# EAGLE library part NJM319 (library Comparator)
NJM319 高速コンパレータ datasheet <http://akizukidenshi.com/catalog/g/gI-10083/>
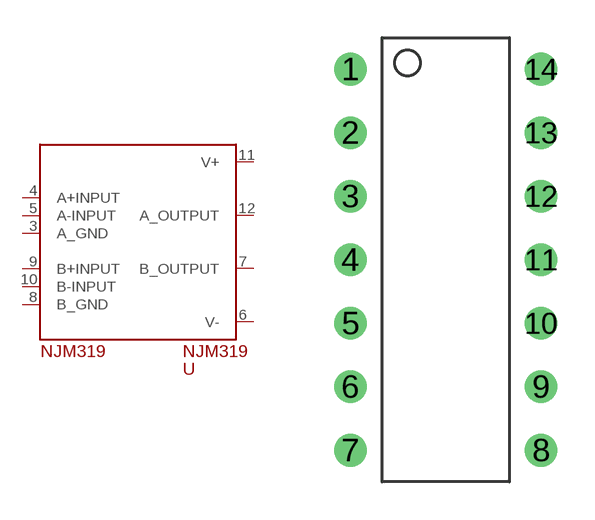
[diagram p0: symbol with the pads of DIP14; footprint DIP14]

Designator prefix U

## NJM319U  [DIP14]
3  A_GND
4  A+INPUT
5  A-INPUT
6  V-
7  B_OUTPUT
8  B_GND
9  B+INPUT
10  B-INPUT
11  V+
12  A_OUTPUT

## Footprint DIP14 (pad centres in mm)
DIPパッケージ 14ピン
drill 0.8: 1 -3.81,7.62; 2 -3.81,5.08; 3 -3.81,2.54; 4 -3.81,0; 5 -3.81,-2.54; 6 -3.81,-5.08; 7 -3.81,-7.62; 8 3.81,-7.62; 9 3.81,-5.08; 10 3.81,-2.54; 11 3.81,0; 12 3.81,2.54; 13 3.81,5.08; 14 3.81,7.62